# EAGLE library part X__N (library ++Bedrahtet)
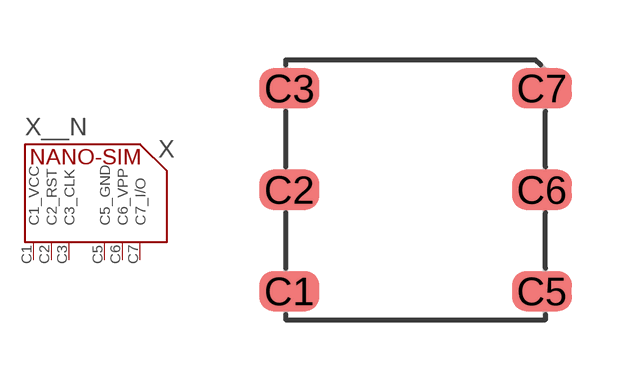
[diagram p48: symbol with the pads of N; footprint N]

Designator prefix X

## X__N  [N]
C1  C1_VCC
C2  C2_RST
C3  C3_CLK
C5  C5_GND
C6  C6_VPP
C7  C7_I/O

## Footprint N (pad centres in mm)
smd 1.5 x 1: C1 -3.16,-2.54; C2 -3.16,0; C3 -3.16,2.54; C5 3.16,-2.54; C6 3.16,0; C7 3.16,2.54